# Altium schematic symbol library E28-2G4M12S.SchLib: 1 symbol
Pins are listed as number, name and electrical type; pins without a type are passive.

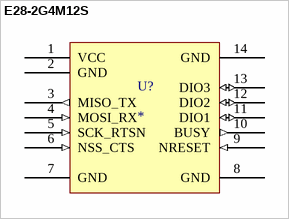
[diagram p0: symbol E28-2G4M12S]

## E28-2G4M12S
designator U?
2.4GHz LoRa Module
pins: 1 VCC, 2 GND, 3 MISO_TX (out), 4 MOSI_RX (in), 5 SCK_RTSN (in), 6 NSS_CTS (in), 7 GND, 8 GND, 9 NRESET (in), 10 BUSY (out), 11 DIO1 (io), 12 DIO2 (io), 13 DIO3 (io), 14 GND